# Altium footprint library SMD-8_6.3mm.PcbLib: 1 footprints
Each footprint in its own frame and in the unit in brackets; x right, y up, seen from the top. Pads: shape width x height; smd on the part's side, far side on the other; paste and mask are expansions set on the pad; w line width, h text height; cw(c..) or ccw(c..) is an arc to the next point about the centre after c.
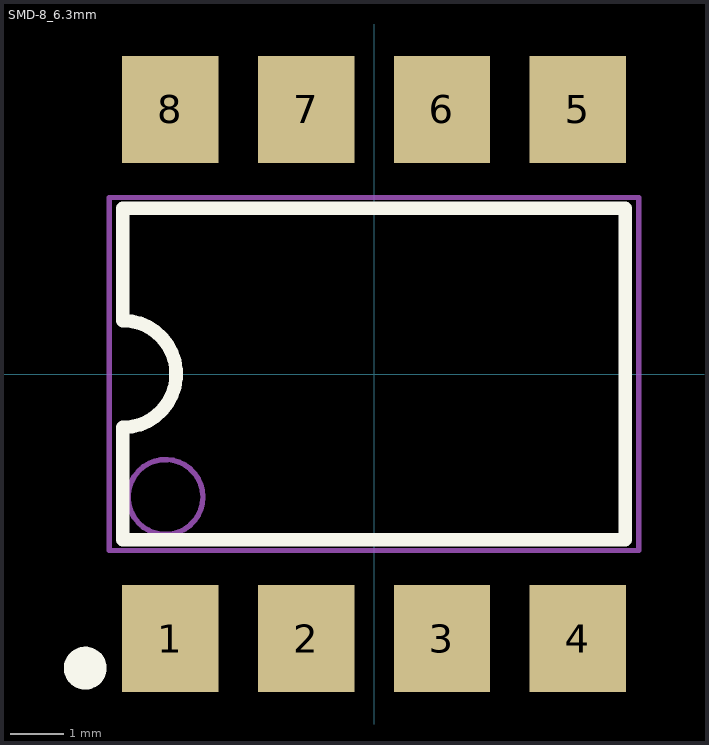
[diagram p0: the footprint, top view; thin cyan lines are the x and y axes]

## SMD-8_6.3mm [mm]
pads (8):
  rect 1.8x2 smd: 1(-3.81,-4.95) 2(-1.27,-4.95) 3(1.27,-4.95) 4(3.81,-4.95) 5(3.81,4.95) 6(1.27,4.95) 7(-1.27,4.95) 8(-3.81,4.95)
Top Overlay:
  circle w0.4: c-5.4,-5.5 r0.2
  lines w0.254: -4.7,-3.1 -4.7,-1 ccw(c-4.7,0) -4.7,1 -4.7,3.1 4.7,3.1 4.7,-3.1 -4.7,-3.1
Mechanical 13:
  circle w0.1: c-3.9,-2.3 r0.7
  lines w0.1: -4.95,-3.3 -4.95,3.3 4.95,3.3 4.95,-3.3 -4.95,-3.3